# Altium schematic symbol library teensy_4_0.SchLib: 1 symbol
Pins are listed as number, name and electrical type; pins without a type are passive.

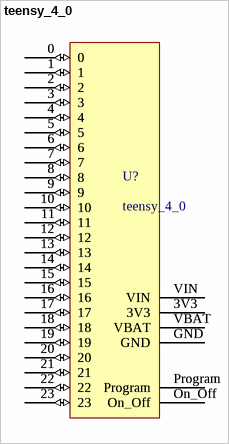
[diagram p0: symbol teensy_4_0]

## teensy_4_0
designator U?
footprint teensy_4_0
pins: 0 (io) "RX1 CRX2 PWM", 0 (io) "RX1 CRX2 PWM", 1 (io) "TX1 CTX2 PWM", 1 (io) "TX1 CTX2 PWM", 2 (io) "OUT2 PWM", 2 (io) "OUT2 PWM", 3 (io) "LRCLK2 PWM", 3 (io) "LRCLK2 PWM", 3V3 (power), 3V3 (power), 4 (io) "BCLK2 PWM", 4 (io) "BCLK2 PWM", 5 (io) "IN2 PWM", 5 (io) "IN2 PWM", 6 (io) "OUT1D OWM", 6 (io) "OUT1D OWM", 7 (io) "RX2 OUT1D PWM", 7 (io) "RX2 OUT1D PWM", 8 (io) "TX2 IN1 PWM", 8 (io) "TX2 IN1 PWM", 9 (io) "OUT1C PWM", 9 (io) "OUT1C PWM", 10 (io) "CS MQSR PWM", 10 (io) "CS MQSR PWM", 11 (io) "MOSI CTX1 PWM", 11 (io) "MOSI CTX1 PWM", 12 (io) "MISO MQSL OWM", 12 (io) "MISO MQSL OWM", 13 (io) "LED SCK CRX1 PWM", 13 (io) "LED SCK CRX1 PWM", 14 (io) "A0 TX3 S/PDIF OUT PWM", 14 (io) "A0 TX3 S/PDIF OUT PWM", 15 (io) "A1 RX3 S/PDIF IN PWM", 15 (io) "A1 RX3 S/PDIF IN PWM", 16 (io) "A2 RX4 SCL1", 16 (io) "A2 RX4 SCL1", 17 (io) "A3 TX4 SDA1", 17 (io) "A3 TX4 SDA1", 18 (io) "A4 SDA0 PWM", 18 (io) "A4 SDA0 PWM", 19 (io) "A5 SCL0 PWM", 19 (io) "A5 SCL0 PWM", 20 (io) "A6 TX5 LRCLK1", 20 (io) "A6 TX5 LRCLK1", 21 (io) "A7 RX5 BCLK1", 21 (io) "A7 RX5 BCLK1", 22 (io) "A8 CTX1 PWM", 22 (io) "A8 CTX1 PWM", 23 (io) "A9 CRX1 MCLK1 PWM", 23 (io) "A9 CRX1 MCLK1 PWM", GND (power), GND (power), On_Off (power), On_Off (power), Program (power), Program (power), VBAT (power), VBAT (power), VIN (power), VIN (power)